# Altium schematic symbol library C1206C106J8RACTU.SchLib: 1 symbol
Pins are listed as number, name and electrical type; pins without a type are passive.

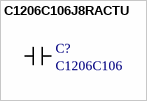
[diagram p0: symbol C1206C106J8RACTU]

## C1206C106J8RACTU
designator C?, comment C1206C106
footprint 3216-A
pins: 1, 2